# EAGLE library part XR-1093P (library exar)
EQUALIZER DISPLAY/FILTER/MULTIPLEXER
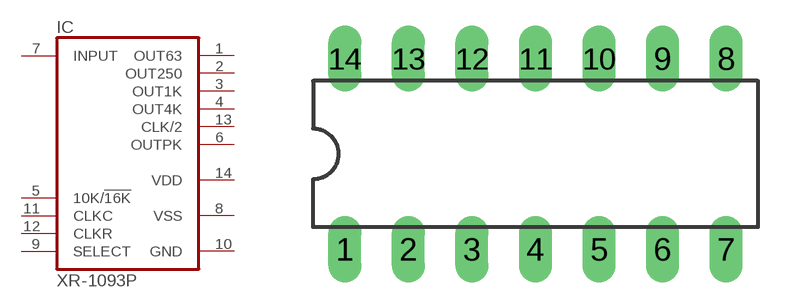
[diagram p29: symbol with the pads of DIL14; footprint DIL14]

Designator prefix IC

## XR-1093P (OC_FARNELL: unknown; OC_NEWARK: unknown)  [DIL14]
1  OUT63  out
2  OUT250  out
3  OUT1K  out
4  OUT4K  out
5  10K/!16K  in
6  OUTPK  out
7  INPUT  in
8  VSS  pwr
9  SELECT  in
10  GND  pwr
11  CLKC  in
12  CLKR  in
13  CLK/2  out
14  VDD  pwr

## Footprint DIL14 (pad centres in mm)
Dual In Line Package
drill 0.813 long: 1 -7.62,-3.81; 2 -5.08,-3.81; 3 -2.54,-3.81; 4 0,-3.81; 5 2.54,-3.81; 6 5.08,-3.81; 7 7.62,-3.81; 8 7.62,3.81; 9 5.08,3.81; 10 2.54,3.81; 11 0,3.81; 12 -2.54,3.81; 13 -5.08,3.81; 14 -7.62,3.81